# Altium integrated library Analog Devices Switches and Multiplexers Multiplexers (Muxes).IntLib: 481 symbols (part 20 of 23)
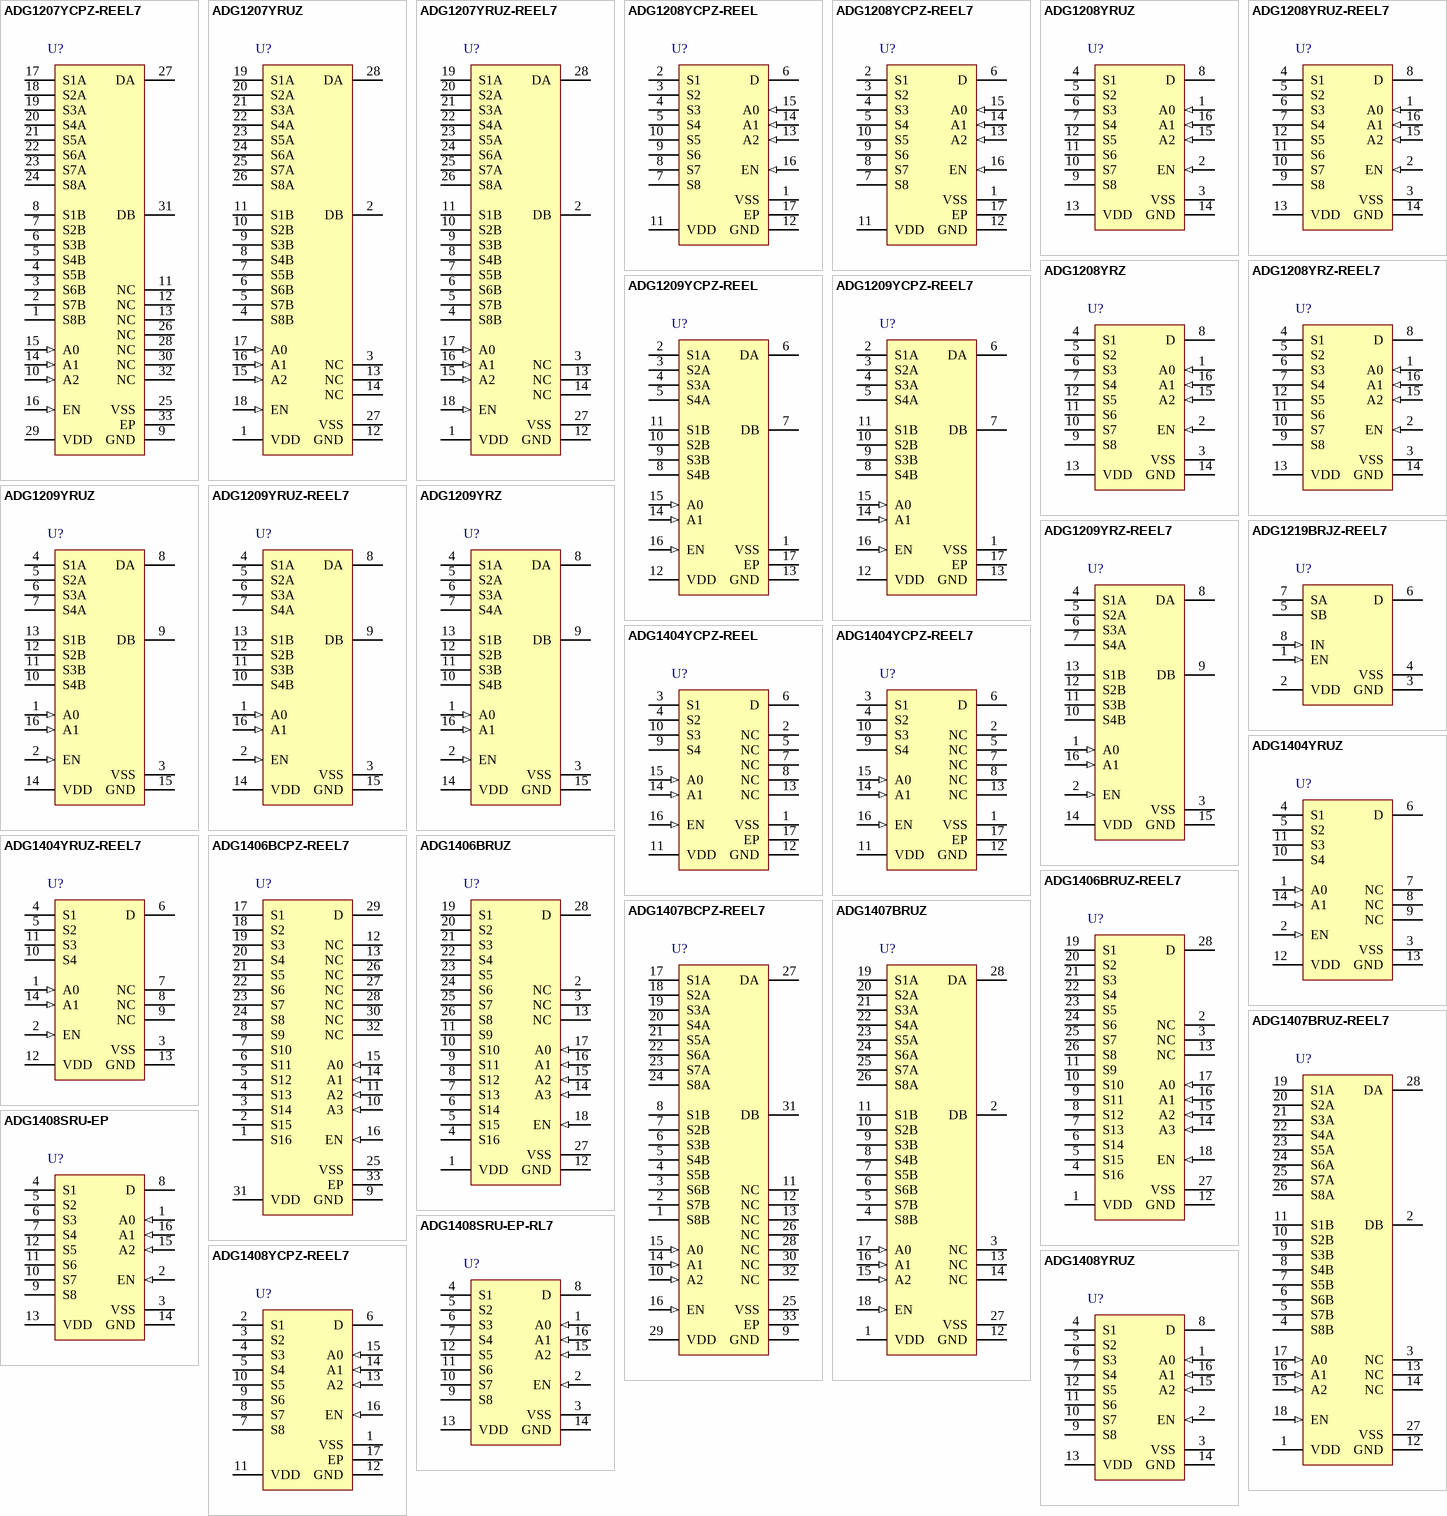
[diagram p36: symbols ADG1207YCPZ-REEL7 to ADG1408YRUZ]

## ADG1404YRUZ-REEL7
designator U?
1.5 Ohm On Resistance, +/-15 V / 12 V / +/-5 V, 4:1, iCMOS Multiplexer, 14-pin SOP (RU-14), Reel; Manufacturer: Analog Devices; PartNumber: ADG1404YRUZ-REEL7; Bandwidth (Hz): 55M, 35M, 40M; Max Analog Signal Range: Vss to Vdd; Ron (ohms): 1.5; t transition (s): 150n; DatasheetVersion: Rev. A; PackageVersion: Aug-02; PackageReference: RU-14; PackageDescription: 14-Pin Thin Shrink Small Outline Package, Body 5 x 4.4 mm, Pitch 0.65 mm; Supplier 1: Digi-Key; Supplier Part Number 1: ADG1404YRUZ-REEL7-ND; Supplier 2: Newark; Supplier Part Number 2: 06W1985; Supplier 3: Mouser; Supplier Part Number 3: 584-ADG1404YRUZ-R7; Packing: Reel; Mounting Technology: Surface Mount; Code_JEDEC: MO-153AB-1; ComponentLink1Description: Manufacturer URL; ComponentLink1URL: http://www.analog.com/en/index.html; ComponentLink2Description: Datasheet; ComponentLink2URL: http://www.analog.com/static/imported-files/data_sheets/ADG1404.pdf; ComponentLink3Description: Package Specification; ComponentLink3URL: http://www.analog.com/static/imported-files/packages/36057385283879153717235186773RU14.pdf
footprint ADI-RU-14_N (SOP, 14-Leads, Body 5x4.4mm, Pitch 0.65mm, IPC Medium Density)
footprint ADI-RU-14_L (SOP, 14-Leads, Body 5x4.4mm, Pitch 0.65mm, IPC High Density)
footprint ADI-RU-14_M (SOP, 14-Leads, Body 5x4.4mm, Pitch 0.65mm, IPC Low Density)
pins: 1 A0 (in) "Logic Control Input.", 2 EN (in) "Active High Digital Input. When this pin is low, the device is disabled and all switches are off. When this pin is high, the Ax logic inputs determine the on switches.", 3 VSS (power) "Most Negative Power Supply Potential.", 4 S1 "Source Terminal. Can be an input or an output.", 5 S2 "Source Terminal. Can be an input or an output.", 6 D "Drain Terminal. Can be an input or an output.", 7 NC "No Connection.", 8 NC "No Connection.", 9 NC "No Connection.", 10 S4 "Source Terminal. Can be an input or an output.", 11 S3 "Source Terminal. Can be an input or an output.", 12 VDD (power) "Most Positive Power Supply Potential.", 13 GND (power) "Ground (0 V) Reference.", 14 A1 (in) "Logic Control Input."

## ADG1406BCPZ-REEL7
designator U?
9.5 Ohm Ron, 16-Channel, +/-15 V / +12 V / +/-5 V iCMOS Multiplexer, 32-pin QFN (CP-32-2), Reel; Manufacturer: Analog Devices; PartNumber: ADG1406BCPZ-REEL7; Bandwidth (Hz): 60M, 35M, 40M; Max Analog Signal Range: Vss to Vdd; Ron (ohms): 9.5; t transition (s): 105n; DatasheetVersion: Rev. A; PackageVersion: Jan-05; PackageReference: CP-32-2; PackageDescription: 32-Pin Lead Frame Chip Scale Package, Body 5 x 5 mm, Pitch 0.5 mm; Supplier 1: Digi-Key; Supplier Part Number 1: ADG1406BCPZ-REEL7TR-ND; Supplier 2: Digi-Key; Supplier Part Number 2: ADG1406BCPZ-REEL7CT-ND; Supplier 3: Digi-Key; Supplier Part Number 3: ADG1406BCPZ-REEL7DKR-ND; Supplier 4: Newark; Supplier Part Number 4: 07P8866; Supplier 5: Mouser; Supplier Part Number 5: 584-ADG1406BCPZ-R7; Packing: Reel; Mounting Technology: Surface Mount; Code_JEDEC: MO-220-VHHD-2; ComponentLink1Description: Manufacturer URL; ComponentLink1URL: http://www.analog.com/en/index.html; ComponentLink2Description: Datasheet; ComponentLink2URL: http://www.analog.com/static/imported-files/data_sheets/ADG1406_1407.pdf; ComponentLink3Description: Package Specification; ComponentLink3URL: http://www.analog.com/static/imported-files/packages/414143737956480539664569CP_32_2.pdf
footprint ADI-CP-32-2_N (QFN, 32-Leads, Body 5x5mm, Pitch 0.5mm, Thermal Pad 3.1x3.1mm, IPC Medium Density)
footprint ADI-CP-32-2_L (QFN, 32-Leads, Body 5x5mm, Pitch 0.5mm, Thermal Pad 3.1x3.1mm, IPC High Density)
footprint ADI-CP-32-2_M (QFN, 32-Leads, Body 5x5mm, Pitch 0.5mm, Thermal Pad 3.1x3.1mm, IPC Low Density)
pins: 1 S16 "Source Terminal 16. This pin can be an input or an output.", 2 S15 "Source Terminal 15. This pin can be an input or an output.", 3 S14 "Source Terminal 14. This pin can be an input or an output.", 4 S13 "Source Terminal 13. This pin can be an input or an output.", 5 S12 "Source Terminal 12. This pin can be an input or an output.", 6 S11 "Source Terminal 11. This pin can be an input or an output.", 7 S10 "Source Terminal 10. This pin can be an input or an output.", 8 S9 "Source Terminal 9. This pin can be an input or an output.", 9 GND (power) "Ground (0 V) Reference.", 10 A3 (in) "Logic Control Input.", 11 A2 (in) "Logic Control Input.", 12 NC "Ground (0 V) Reference.", 13 NC "Source Terminal 13. This pin can be an input or an output.", 14 A1 (in) "Logic Control Input.", 15 A0 (in) "Logic Control Input.", 16 EN (in) "Active High Digital Input. When this pin is low, the device is disabled and all switches are turned off. When this pin is high, the Ax logic inputs determine which switch is turned on.", 17 S1 "Source Terminal 1. This pin can be an input or an output.", 18 S2 "Source Terminal 2. This pin can be an input or an output.", 19 S3 "Source Terminal 3. This pin can be an input or an output.", 20 S4 "Source Terminal 4. This pin can be an input or an output.", 21 S5 "Source Terminal 5. This pin can be an input or an output.", 22 S6 "Source Terminal 6. This pin can be an input or an output.", 23 S7 "Source Terminal 7. This pin can be an input or an output.", 24 S8 "Source Terminal 8. This pin can be an input or an output.", 25 VSS (power) "Most Negative Power Supply Potential. In single-supply applications, this pin can be connected to ground. The exposed pad is tied to the substrate, VSS.", 26 NC "No Connect.", 27 NC "No Connect.", 28 NC "No Connect.", 29 D "Drain Terminal. This pin can be an input or an output.", 30 NC "No Connect.", 31 VDD (power) "Most Positive Power Supply Potential.", 32 NC "No Connect.", 33 EP (power) "EXPOSED PAD TIED TO SUBSTRATE, VSS."

## ADG1406BRUZ
designator U?
9.5 Ohm Ron, 16-Channel, +/-15 V / +12 V / +/-5 V iCMOS Multiplexer, 28-pin SOP (RU-28), Tube; Manufacturer: Analog Devices; PartNumber: ADG1406BRUZ; Bandwidth (Hz): 60M, 35M, 40M; Max Analog Signal Range: Vss to Vdd; Ron (ohms): 9.5; t transition (s): 105n; DatasheetVersion: Rev. A; PackageVersion: Mar-05; PackageReference: RU-28; PackageDescription: 28-Pin Thin Shrink Small Outline Package, Body 9.7 x 4.4 mm, Pitch 0.65 mm; Supplier 1: Digi-Key; Supplier Part Number 1: ADG1406BRUZ-ND; Supplier 2: Farnell; Supplier Part Number 2: 2305790; Supplier 3: Newark; Supplier Part Number 3: 07P8867; Supplier 4: Mouser; Supplier Part Number 4: 584-ADG1406BRUZ; Packing: Tube; Mounting Technology: Surface Mount; Code_JEDEC: MO-153-AE; ComponentLink1Description: Manufacturer URL; ComponentLink1URL: http://www.analog.com/en/index.html; ComponentLink2Description: Datasheet; ComponentLink2URL: http://www.analog.com/static/imported-files/data_sheets/ADG1406_1407.pdf; ComponentLink3Description: Package Specification; ComponentLink3URL: http://www.analog.com/static/imported-files/packages/249854663RU_28.pdf
footprint ADI-RU-28_N (SOP, 28-Leads, Body 9.7x4.4mm, Pitch 0.65mm, IPC Medium Density)
footprint ADI-RU-28_L (SOP, 28-Leads, Body 9.7x4.4mm, Pitch 0.65mm, IPC High Density)
footprint ADI-RU-28_M (SOP, 28-Leads, Body 9.7x4.4mm, Pitch 0.65mm, IPC Low Density)
pins: 1 VDD (power) "Most Positive Power Supply Potential.", 2 NC "No Connect.", 3 NC "No Connect.", 4 S16 "Source Terminal 16. This pin can be an input or an output.", 5 S15 "Source Terminal 16. This pin can be an input or an output.", 6 S14 "Source Terminal 16. This pin can be an input or an output.", 7 S13 "Source Terminal 16. This pin can be an input or an output.", 8 S12 "Source Terminal 16. This pin can be an input or an output.", 9 S11 "Source Terminal 16. This pin can be an input or an output.", 10 S10 "Source Terminal 16. This pin can be an input or an output.", 11 S9 "Source Terminal 16. This pin can be an input or an output.", 12 GND (power) "Source Terminal 16. This pin can be an input or an output.", 13 NC "No Connect.", 14 A3 (in) "Logic Control Input.", 15 A2 (in) "Logic Control Input.", 16 A1 (in) "Logic Control Input.", 17 A0 (in) "Logic Control Input.", 18 EN (in) "Active High Digital Input. When this pin is low, the device is disabled and all switches are  turned off. When this pin is high, the Ax logic inputs determine which switch is turned on.", 19 S1 "Source Terminal 16. This pin can be an input or an output.", 20 S2 "Source Terminal 16. This pin can be an input or an output.", 21 S3 "Source Terminal 16. This pin can be an input or an output.", 22 S4 "Source Terminal 16. This pin can be an input or an output.", 23 S5 "Source Terminal 16. This pin can be an input or an output.", 24 S6 "Source Terminal 16. This pin can be an input or an output.", 25 S7 "Source Terminal 16. This pin can be an input or an output.", 26 S8 "Source Terminal 16. This pin can be an input or an output.", 27 VSS (power) "Most Negative Power Supply Potential. In single-supply applications, this pin can be connected to ground. The exposed pad is tied to the substrate, VSS.", 28 D "Drain Terminal. This pin can be an input or an output."

## ADG1406BRUZ-REEL7
designator U?
9.5 Ohm Ron, 16-Channel, +/-15 V / +12 V / +/-5 V iCMOS Multiplexer, 28-pin SOP (RU-28), Reel; Manufacturer: Analog Devices; PartNumber: ADG1406BRUZ-REEL7; Bandwidth (Hz): 60M, 35M, 40M; Max Analog Signal Range: Vss to Vdd; Ron (ohms): 9.5; t transition (s): 105n; DatasheetVersion: Rev. A; PackageVersion: Mar-05; PackageReference: RU-28; PackageDescription: 28-Pin Thin Shrink Small Outline Package, Body 9.7 x 4.4 mm, Pitch 0.65 mm; Supplier 1: Digi-Key; Supplier Part Number 1: ADG1406BRUZ-REEL7-ND; Supplier 2: Newark; Supplier Part Number 2: 07P8868; Supplier 3: Mouser; Supplier Part Number 3: 584-ADG1406BRUZ-R7; Packing: Reel; Mounting Technology: Surface Mount; Code_JEDEC: MO-153-AE; ComponentLink1Description: Manufacturer URL; ComponentLink1URL: http://www.analog.com/en/index.html; ComponentLink2Description: Datasheet; ComponentLink2URL: http://www.analog.com/static/imported-files/data_sheets/ADG1406_1407.pdf; ComponentLink3Description: Package Specification; ComponentLink3URL: http://www.analog.com/static/imported-files/packages/249854663RU_28.pdf
footprint ADI-RU-28_N (SOP, 28-Leads, Body 9.7x4.4mm, Pitch 0.65mm, IPC Medium Density)
footprint ADI-RU-28_L (SOP, 28-Leads, Body 9.7x4.4mm, Pitch 0.65mm, IPC High Density)
footprint ADI-RU-28_M (SOP, 28-Leads, Body 9.7x4.4mm, Pitch 0.65mm, IPC Low Density)
pins: 1 VDD (power) "Most Positive Power Supply Potential.", 2 NC "No Connect.", 3 NC "No Connect.", 4 S16 "Source Terminal 16. This pin can be an input or an output.", 5 S15 "Source Terminal 16. This pin can be an input or an output.", 6 S14 "Source Terminal 16. This pin can be an input or an output.", 7 S13 "Source Terminal 16. This pin can be an input or an output.", 8 S12 "Source Terminal 16. This pin can be an input or an output.", 9 S11 "Source Terminal 16. This pin can be an input or an output.", 10 S10 "Source Terminal 16. This pin can be an input or an output.", 11 S9 "Source Terminal 16. This pin can be an input or an output.", 12 GND (power) "Source Terminal 16. This pin can be an input or an output.", 13 NC "No Connect.", 14 A3 (in) "Logic Control Input.", 15 A2 (in) "Logic Control Input.", 16 A1 (in) "Logic Control Input.", 17 A0 (in) "Logic Control Input.", 18 EN (in) "Active High Digital Input. When this pin is low, the device is disabled and all switches are  turned off. When this pin is high, the Ax logic inputs determine which switch is turned on.", 19 S1 "Source Terminal 16. This pin can be an input or an output.", 20 S2 "Source Terminal 16. This pin can be an input or an output.", 21 S3 "Source Terminal 16. This pin can be an input or an output.", 22 S4 "Source Terminal 16. This pin can be an input or an output.", 23 S5 "Source Terminal 16. This pin can be an input or an output.", 24 S6 "Source Terminal 16. This pin can be an input or an output.", 25 S7 "Source Terminal 16. This pin can be an input or an output.", 26 S8 "Source Terminal 16. This pin can be an input or an output.", 27 VSS (power) "Most Negative Power Supply Potential. In single-supply applications, this pin can be connected to ground. The exposed pad is tied to the substrate, VSS.", 28 D "Drain Terminal. This pin can be an input or an output."

## ADG1407BCPZ-REEL7
designator U?
9.5 Ohm Ron, Differential 8-Channel, +/-15 V / +12 V / +/-5 V iCMOS Multiplexer, 32-pin QFN (CP-32-2), Reel; Manufacturer: Analog Devices; PartNumber: ADG1407BCPZ-REEL7; Bandwidth (Hz): 110M, 70M, 80M; Max Analog Signal Range: Vss to Vdd; Ron (ohms): 9.5; t transition (s): 105n; DatasheetVersion: Rev. A; PackageVersion: Jan-05; PackageReference: CP-32-2; PackageDescription: 32-Pin Lead Frame Chip Scale Package, Body 5 x 5 mm, Pitch 0.5 mm; Supplier 1: Digi-Key; Supplier Part Number 1: ADG1407BCPZ-REEL7TR-ND; Supplier 2: Digi-Key; Supplier Part Number 2: ADG1407BCPZ-REEL7CT-ND; Supplier 3: Digi-Key; Supplier Part Number 3: ADG1407BCPZ-REEL7DKR-ND; Supplier 4: Newark; Supplier Part Number 4: 07P8869; Supplier 5: Mouser; Supplier Part Number 5: 584-ADG1407BCPZ-R7; Packing: Reel; Mounting Technology: Surface Mount; Code_JEDEC: MO-220-VHHD-2; ComponentLink1Description: Manufacturer URL; ComponentLink1URL: http://www.analog.com/en/index.html; ComponentLink2Description: Datasheet; ComponentLink2URL: http://www.analog.com/static/imported-files/data_sheets/ADG1406_1407.pdf; ComponentLink3Description: Package Specification; ComponentLink3URL: http://www.analog.com/static/imported-files/packages/414143737956480539664569CP_32_2.pdf
footprint ADI-CP-32-2_N (QFN, 32-Leads, Body 5x5mm, Pitch 0.5mm, Thermal Pad 3.1x3.1mm, IPC Medium Density)
footprint ADI-CP-32-2_L (QFN, 32-Leads, Body 5x5mm, Pitch 0.5mm, Thermal Pad 3.1x3.1mm, IPC High Density)
footprint ADI-CP-32-2_M (QFN, 32-Leads, Body 5x5mm, Pitch 0.5mm, Thermal Pad 3.1x3.1mm, IPC Low Density)
pins: 1 S8B "Source Terminal 8B. This pin can be an input or an output.", 2 S7B "Source Terminal 7B. This pin can be an input or an output.", 3 S6B "Source Terminal 6B. This pin can be an input or an output.", 4 S5B "Source Terminal 5B. This pin can be an input or an output.", 5 S4B "Source Terminal 4B. This pin can be an input or an output.", 6 S3B "Source Terminal 3B. This pin can be an input or an output.", 7 S2B "Source Terminal 2B. This pin can be an input or an output.", 8 S1B "Source Terminal 1B. This pin can be an input or an output.", 9 GND (power) "Ground (0 V) Reference.", 10 A2 (in) "Logic Control Input.", 11 NC "No Connect.", 12 NC "No Connect.", 13 NC "No Connect.", 14 A1 (in) "Logic Control Input.", 15 A0 (in) "Logic Control Input.", 16 EN (in) "Active High Digital Input. When this pin is low, the device is disabled and all switches are turned off. When this pin is high, the Ax logic inputs determine which switch is turned on.", 17 S1A "Source Terminal 1A. This pin can be an input or an output.", 18 S2A "Source Terminal 2A. This pin can be an input or an output.", 19 S3A "Source Terminal 3A. This pin can be an input or an output.", 20 S4A "Source Terminal 4A. This pin can be an input or an output.", 21 S5A "Source Terminal 5A. This pin can be an input or an output.", 22 S6A "Source Terminal 6A. This pin can be an input or an output.", 23 S7A "Source Terminal 7A. This pin can be an input or an output.", 24 S8A "Source Terminal 8A. This pin can be an input or an output.", 25 VSS (power) "Most Negative Power Supply Potential. In single-supply applications, this pin can be connected to ground. The exposed pad is tied to the substrate, VSS.", 26 NC "No Connect.", 27 DA "Drain Terminal A. This pin can be an input or an output.", 28 NC "No Connect.", 29 VDD (power) "Most Positive Power Supply Potential.", 30 NC "No Connect.", 31 DB "Drain Terminal B. This pin can be an input or an output.", 32 NC "No Connect.", 33 EP (power) "EXPOSED PAD TIED TO SUBSTRATE, VSS."

## ADG1407BRUZ
designator U?
9.5 Ohm Ron, Differential 8-Channel, +/-15 V / +12 V / +/-5 V iCMOS Multiplexer, 28-pin SOP (RU-28), Tube; Manufacturer: Analog Devices; PartNumber: ADG1407BRUZ; Bandwidth (Hz): 110M, 70M, 80M; Max Analog Signal Range: Vss to Vdd; Ron (ohms): 9.5; t transition (s): 105n; DatasheetVersion: Rev. A; PackageVersion: Mar-05; PackageReference: RU-28; PackageDescription: 28-Pin Thin Shrink Small Outline Package, Body 9.7 x 4.4 mm, Pitch 0.65 mm; Supplier 1: Digi-Key; Supplier Part Number 1: ADG1407BRUZ-ND; Supplier 2: Farnell; Supplier Part Number 2: 2314064; Supplier 3: Newark; Supplier Part Number 3: 07P8870; Supplier 4: Mouser; Supplier Part Number 4: 584-ADG1407BRUZ; Packing: Tube; Mounting Technology: Surface Mount; Code_JEDEC: MO-153-AE; ComponentLink1Description: Manufacturer URL; ComponentLink1URL: http://www.analog.com/en/index.html; ComponentLink2Description: Datasheet; ComponentLink2URL: http://www.analog.com/static/imported-files/data_sheets/ADG1406_1407.pdf; ComponentLink3Description: Package Specification; ComponentLink3URL: http://www.analog.com/static/imported-files/packages/249854663RU_28.pdf
footprint ADI-RU-28_N (SOP, 28-Leads, Body 9.7x4.4mm, Pitch 0.65mm, IPC Medium Density)
footprint ADI-RU-28_L (SOP, 28-Leads, Body 9.7x4.4mm, Pitch 0.65mm, IPC High Density)
footprint ADI-RU-28_M (SOP, 28-Leads, Body 9.7x4.4mm, Pitch 0.65mm, IPC Low Density)
pins: 1 VDD (power) "Most Positive Power Supply Potential.", 2 DB "Drain Terminal B. This pin can be an input or an output.", 3 NC "No Connect.", 4 S8B "Source Terminal 8B. This pin can be an input or an output.", 5 S7B "Source Terminal 7B. This pin can be an input or an output.", 6 S6B "Source Terminal 6B. This pin can be an input or an output.", 7 S5B "Source Terminal 5B. This pin can be an input or an output.", 8 S4B "Source Terminal 4B. This pin can be an input or an output.", 9 S3B "Source Terminal 3B. This pin can be an input or an output.", 10 S2B "Source Terminal 2B. This pin can be an input or an output.", 11 S1B "Source Terminal 1B. This pin can be an input or an output.", 12 GND (power) "Ground (0 V) Reference.", 13 NC "No Connect.", 14 NC "No Connect.", 15 A2 (in) "Logic Control Input.", 16 A1 (in) "Logic Control Input.", 17 A0 (in) "Logic Control Input.", 18 EN (in) "Active High Digital Input. When this pin is low, the device is disabled and all switches are turned off. When this pin is high, the Ax logic inputs determine which switch is turned on.", 19 S1A "Source Terminal 1A. This pin can be an input or an output.", 20 S2A "Source Terminal 2A. This pin can be an input or an output.", 21 S3A "Source Terminal 3A. This pin can be an input or an output.", 22 S4A "Source Terminal 4A. This pin can be an input or an output.", 23 S5A "Source Terminal 5A. This pin can be an input or an output.", 24 S6A "Source Terminal 6A. This pin can be an input or an output.", 25 S7A "Source Terminal 7A. This pin can be an input or an output.", 26 S8A "Source Terminal 8A. This pin can be an input or an output.", 27 VSS (power) "Most Negative Power Supply Potential. In single-supply applications, this pin can be connected to ground. The exposed pad is tied to the substrate, VSS.", 28 DA "Drain Terminal A. This pin can be an input or an output."

## ADG1407BRUZ-REEL7
designator U?
9.5 Ohm Ron, Differential 8-Channel, +/-15 V / +12 V / +/-5 V iCMOS Multiplexer, 28-pin SOP (RU-28), Reel; Manufacturer: Analog Devices; PartNumber: ADG1407BRUZ-REEL7; Bandwidth (Hz): 110M, 70M, 80M; Max Analog Signal Range: Vss to Vdd; Ron (ohms): 9.5; t transition (s): 105n; DatasheetVersion: Rev. A; PackageVersion: Mar-05; PackageReference: RU-28; PackageDescription: 28-Pin Thin Shrink Small Outline Package, Body 9.7 x 4.4 mm, Pitch 0.65 mm; Supplier 1: Digi-Key; Supplier Part Number 1: ADG1407BRUZ-REEL7-ND; Supplier 2: Newark; Supplier Part Number 2: 07P8871; Supplier 3: Mouser; Supplier Part Number 3: 584-ADG1407BRUZ-R7; Packing: Reel; Mounting Technology: Surface Mount; Code_JEDEC: MO-153-AE; ComponentLink1Description: Manufacturer URL; ComponentLink1URL: http://www.analog.com/en/index.html; ComponentLink2Description: Datasheet; ComponentLink2URL: http://www.analog.com/static/imported-files/data_sheets/ADG1406_1407.pdf; ComponentLink3Description: Package Specification; ComponentLink3URL: http://www.analog.com/static/imported-files/packages/249854663RU_28.pdf
footprint ADI-RU-28_N (SOP, 28-Leads, Body 9.7x4.4mm, Pitch 0.65mm, IPC Medium Density)
footprint ADI-RU-28_L (SOP, 28-Leads, Body 9.7x4.4mm, Pitch 0.65mm, IPC High Density)
footprint ADI-RU-28_M (SOP, 28-Leads, Body 9.7x4.4mm, Pitch 0.65mm, IPC Low Density)
pins: 1 VDD (power) "Most Positive Power Supply Potential.", 2 DB "Drain Terminal B. This pin can be an input or an output.", 3 NC "No Connect.", 4 S8B "Source Terminal 8B. This pin can be an input or an output.", 5 S7B "Source Terminal 7B. This pin can be an input or an output.", 6 S6B "Source Terminal 6B. This pin can be an input or an output.", 7 S5B "Source Terminal 5B. This pin can be an input or an output.", 8 S4B "Source Terminal 4B. This pin can be an input or an output.", 9 S3B "Source Terminal 3B. This pin can be an input or an output.", 10 S2B "Source Terminal 2B. This pin can be an input or an output.", 11 S1B "Source Terminal 1B. This pin can be an input or an output.", 12 GND (power) "Ground (0 V) Reference.", 13 NC "No Connect.", 14 NC "No Connect.", 15 A2 (in) "Logic Control Input.", 16 A1 (in) "Logic Control Input.", 17 A0 (in) "Logic Control Input.", 18 EN (in) "Active High Digital Input. When this pin is low, the device is disabled and all switches are turned off. When this pin is high, the Ax logic inputs determine which switch is turned on.", 19 S1A "Source Terminal 1A. This pin can be an input or an output.", 20 S2A "Source Terminal 2A. This pin can be an input or an output.", 21 S3A "Source Terminal 3A. This pin can be an input or an output.", 22 S4A "Source Terminal 4A. This pin can be an input or an output.", 23 S5A "Source Terminal 5A. This pin can be an input or an output.", 24 S6A "Source Terminal 6A. This pin can be an input or an output.", 25 S7A "Source Terminal 7A. This pin can be an input or an output.", 26 S8A "Source Terminal 8A. This pin can be an input or an output.", 27 VSS (power) "Most Negative Power Supply Potential. In single-supply applications, this pin can be connected to ground. The exposed pad is tied to the substrate, VSS.", 28 DA "Drain Terminal A. This pin can be an input or an output."

## ADG1408SRU-EP
designator U?
4 Ohm Ron, 8-Channel +/-15 V / +12 V / +/-5 V iCMOS Multiplexer, 16-pin SOP (RU-16), Tube; Manufacturer: Analog Devices; PartNumber: ADG1408SRU-EP; Bandwidth (Hz): 60M, 36M, 40M; Max Analog Signal Range: Vss to Vdd; Ron (ohms): 4; t transition (s): 140n; DatasheetVersion: Rev. B; PackageVersion: Nov-02; PackageReference: RU-16; PackageDescription: 16-Pin Thin Shrink Small Outline Package, Body 5 x 4.4 mm, Pitch 0.65 mm; Supplier 1: Digi-Key; Supplier Part Number 1: ADG1408SRU-EP-ND; Supplier 2: Mouser; Supplier Part Number 2: 584-ADG1408SRU-EP; Packing: Tube; Mounting Technology: Surface Mount; Code_JEDEC: MO-153AB; ComponentLink1Description: Manufacturer URL; ComponentLink1URL: http://www.analog.com/en/index.html; ComponentLink2Description: Datasheet; ComponentLink2URL: http://www.analog.com/static/imported-files/data_sheets/ADG1408_1409.pdf; ComponentLink3Description: Package Specification; ComponentLink3URL: http:/www.analog.com/static/imported-files/packages/36244347913743854010197452789RU16.pdf
footprint ADI-RU-16_N (SOP, 16-Leads, Body 5x4.4mm, Pitch 0.65mm, IPC Medium Density)
footprint ADI-RU-16_L (SOP, 16-Leads, Body 5x4.4mm, Pitch 0.65mm, IPC High Density)
footprint ADI-RU-16_M (SOP, 16-Leads, Body 5x4.4mm, Pitch 0.65mm, IPC Low Density)
pins: 1 A0 (in) "Logic Control Input.", 2 EN (in) "Active High Digital Input. When low, the device is disabled and all switches are off. When high, Ax logic inputs determine on switches.", 3 VSS (power) "Most Negative Power Supply Potential. In single supply applications, it can be connected to ground.", 4 S1 "Source Terminal 1. Can be an input or an output.", 5 S2 "Source Terminal 2. Can be an input or an output.", 6 S3 "Source Terminal 3. Can be an input or an output.", 7 S4 "Source Terminal 4. Can be an input or an output.", 8 D "Drain Terminal. Can be an input or an output.", 9 S8 "Source Terminal 8. Can be an input or an output.", 10 S7 "Source Terminal 7. Can be an input or an output.", 11 S6 "Source Terminal 6. Can be an input or an output.", 12 S5 "Source Terminal 5. Can be an input or an output.", 13 VDD (power) "Most Positive Power Supply Potential.", 14 GND (power) "Ground (0 V) Reference.", 15 A2 (in) "Logic Control Input.", 16 A1 (in) "Logic Control Input."

## ADG1408SRU-EP-RL7
designator U?
4 Ohm Ron, 8-Channel +/-15 V / +12 V / +/-5 V iCMOS Multiplexer, 16-pin SOP (RU-16), Reel; Manufacturer: Analog Devices; PartNumber: ADG1408SRU-EP-RL7; Bandwidth (Hz): 60M, 36M, 40M; Max Analog Signal Range: Vss to Vdd; Ron (ohms): 4; t transition (s): 140n; DatasheetVersion: Rev. B; PackageVersion: Nov-02; PackageReference: RU-16; PackageDescription: 16-Pin Thin Shrink Small Outline Package, Body 5 x 4.4 mm, Pitch 0.65 mm; Supplier 1: Digi-Key; Supplier Part Number 1: ADG1408SRU-EP-RL7TR-ND; Supplier 2: Digi-Key; Supplier Part Number 2: ADG1408SRU-EP-RL7CT-ND; Supplier 3: Digi-Key; Supplier Part Number 3: ADG1408SRU-EP-RL7DKR-ND; Supplier 4: Mouser; Supplier Part Number 4: 584-ADG1408SRU-EP-R7; Packing: Reel; Mounting Technology: Surface Mount; Code_JEDEC: MO-153AB; ComponentLink1Description: Manufacturer URL; ComponentLink1URL: http://www.analog.com/en/index.html; ComponentLink2Description: Datasheet; ComponentLink2URL: http://www.analog.com/static/imported-files/data_sheets/ADG1408_1409.pdf; ComponentLink3Description: Package Specification; ComponentLink3URL: http:/www.analog.com/static/imported-files/packages/36244347913743854010197452789RU16.pdf
footprint ADI-RU-16_N (SOP, 16-Leads, Body 5x4.4mm, Pitch 0.65mm, IPC Medium Density)
footprint ADI-RU-16_L (SOP, 16-Leads, Body 5x4.4mm, Pitch 0.65mm, IPC High Density)
footprint ADI-RU-16_M (SOP, 16-Leads, Body 5x4.4mm, Pitch 0.65mm, IPC Low Density)
pins: 1 A0 (in) "Logic Control Input.", 2 EN (in) "Active High Digital Input. When low, the device is disabled and all switches are off. When high, Ax logic inputs determine on switches.", 3 VSS (power) "Most Negative Power Supply Potential. In single supply applications, it can be connected to ground.", 4 S1 "Source Terminal 1. Can be an input or an output.", 5 S2 "Source Terminal 2. Can be an input or an output.", 6 S3 "Source Terminal 3. Can be an input or an output.", 7 S4 "Source Terminal 4. Can be an input or an output.", 8 D "Drain Terminal. Can be an input or an output.", 9 S8 "Source Terminal 8. Can be an input or an output.", 10 S7 "Source Terminal 7. Can be an input or an output.", 11 S6 "Source Terminal 6. Can be an input or an output.", 12 S5 "Source Terminal 5. Can be an input or an output.", 13 VDD (power) "Most Positive Power Supply Potential.", 14 GND (power) "Ground (0 V) Reference.", 15 A2 (in) "Logic Control Input.", 16 A1 (in) "Logic Control Input."

## ADG1408YCPZ-REEL7
designator U?
4 Ohm Ron, 8-Channel +/-15 V / +12 V / +/-5 V iCMOS Multiplexer, 16-pin QFN (CP-16-13), Reel; Manufacturer: Analog Devices; PartNumber: ADG1408YCPZ-REEL7; Bandwidth (Hz): 60M, 36M, 40M; Max Analog Signal Range: Vss to Vdd; Ron (ohms): 4; t transition (s): 140n; DatasheetVersion: Rev. B; PackageVersion: 031006-A, 06/2006; PackageReference: CP-16-13; PackageDescription: 16-Pin Lead Frame Chip Scale Package, Body 4 x 4 mm, Pitch 0.65 mm; Supplier 1: Digi-Key; Supplier Part Number 1: ADG1408YCPZ-REEL7TR-ND; Supplier 2: Digi-Key; Supplier Part Number 2: ADG1408YCPZ-REEL7CT-ND; Supplier 3: Digi-Key; Supplier Part Number 3: ADG1408YCPZ-REEL7DKR-ND; Supplier 4: Farnell; Supplier Part Number 4: 2312830; Supplier 5: Newark; Supplier Part Number 5: 67W2630; Supplier 6: Newark; Supplier Part Number 6: 28M3585; Supplier 7: Mouser; Supplier Part Number 7: 584-ADG1408YCPZ-R7; Packing: Reel; Mounting Technology: Surface Mount; Code_JEDEC: MO-220-VGGC.; ComponentLink1Description: Manufacturer URL; ComponentLink1URL: http://www.analog.com/en/index.html; ComponentLink2Description: Datasheet; ComponentLink2URL: http://www.analog.com/static/imported-files/data_sheets/ADG1408_1409.pdf; ComponentLink3Description: Package Specification; ComponentLink3URL: http://www.analog.com/static/imported-files/packages/PKG_PDF/LFCSP(CP)/CP-16/CP_16_13.pdf
footprint ADI-CP-16-13_N (QFN, 16-Leads, Body 4x4mm, Pitch 0.65mm, Thermal Pad 2.5x2.5mm, IPC Medium Density)
footprint ADI-CP-16-13_L (QFN, 16-Leads, Body 4x4mm, Pitch 0.65mm, Thermal Pad 2.5x2.5mm, IPC High Density)
footprint ADI-CP-16-13_M (QFN, 16-Leads, Body 4x4mm, Pitch 0.65mm, Thermal Pad 2.5x2.5mm, IPC Low Density)
pins: 1 VSS (power) "Most Negative Power Supply Potential. In single supply applications, it can be connected to ground.", 2 S1 "Source Terminal 1. Can be an input or an output.", 3 S2 "Source Terminal 2. Can be an input or an output.", 4 S3 "Source Terminal 3. Can be an input or an output.", 5 S4 "Source Terminal 4. Can be an input or an output.", 6 D "Drain Terminal. Can be an input or an output.", 7 S8 "Source Terminal 8. Can be an input or an output.", 8 S7 "Source Terminal 7. Can be an input or an output.", 9 S6 "Source Terminal 6. Can be an input or an output.", 10 S5 "Source Terminal . Can be an input or an output.", 11 VDD (power) "Most Positive Power Supply Potential.", 12 GND (power) "Ground (0 V) Reference.", 13 A2 (in) "Logic Control Input.", 14 A1 (in) "Logic Control Input.", 15 A0 (in) "Logic Control Input.", 16 EN (in) "Active High Digital Input. When low, the device is disabled and all switches are off. When high, Ax logic inputs determine on switches.", 17 EP (power) "The exposed pad is connected internally. For increased reliability of the solder joints and maximum thermal capability, it is recommended that the pad be soldered to the substrate, VSS."

## ADG1408YRUZ
designator U?
4 Ohm Ron, 8-Channel +/-15 V / +12 V / +/-5 V iCMOS Multiplexer, 16-pin SOP (RU-16), Tube; Manufacturer: Analog Devices; PartNumber: ADG1408YRUZ; Bandwidth (Hz): 60M, 36M, 40M; Max Analog Signal Range: Vss to Vdd; Ron (ohms): 4; t transition (s): 140n; DatasheetVersion: Rev. B; PackageVersion: Nov-02; PackageReference: RU-16; PackageDescription: 16-Pin Thin Shrink Small Outline Package, Body 5 x 4.4 mm, Pitch 0.65 mm; Supplier 1: Digi-Key; Supplier Part Number 1: ADG1408YRUZ-ND; Supplier 2: Farnell; Supplier Part Number 2: 1438940; Supplier 3: Newark; Supplier Part Number 3: 28M3586; Supplier 4: Mouser; Supplier Part Number 4: 584-ADG1408YRUZ; Packing: Tube; Mounting Technology: Surface Mount; Code_JEDEC: MO-153AB; ComponentLink1Description: Manufacturer URL; ComponentLink1URL: http://www.analog.com/en/index.html; ComponentLink2Description: Datasheet; ComponentLink2URL: http://www.analog.com/static/imported-files/data_sheets/ADG1408_1409.pdf; ComponentLink3Description: Package Specification; ComponentLink3URL: http:/www.analog.com/static/imported-files/packages/36244347913743854010197452789RU16.pdf
footprint ADI-RU-16_N (SOP, 16-Leads, Body 5x4.4mm, Pitch 0.65mm, IPC Medium Density)
footprint ADI-RU-16_L (SOP, 16-Leads, Body 5x4.4mm, Pitch 0.65mm, IPC High Density)
footprint ADI-RU-16_M (SOP, 16-Leads, Body 5x4.4mm, Pitch 0.65mm, IPC Low Density)
pins: 1 A0 (in) "Logic Control Input.", 2 EN (in) "Active High Digital Input. When low, the device is disabled and all switches are off. When high, Ax logic inputs determine on switches.", 3 VSS (power) "Most Negative Power Supply Potential. In single supply applications, it can be connected to ground.", 4 S1 "Source Terminal 1. Can be an input or an output.", 5 S2 "Source Terminal 2. Can be an input or an output.", 6 S3 "Source Terminal 3. Can be an input or an output.", 7 S4 "Source Terminal 4. Can be an input or an output.", 8 D "Drain Terminal. Can be an input or an output.", 9 S8 "Source Terminal 8. Can be an input or an output.", 10 S7 "Source Terminal 7. Can be an input or an output.", 11 S6 "Source Terminal 6. Can be an input or an output.", 12 S5 "Source Terminal 5. Can be an input or an output.", 13 VDD (power) "Most Positive Power Supply Potential.", 14 GND (power) "Ground (0 V) Reference.", 15 A2 (in) "Logic Control Input.", 16 A1 (in) "Logic Control Input."

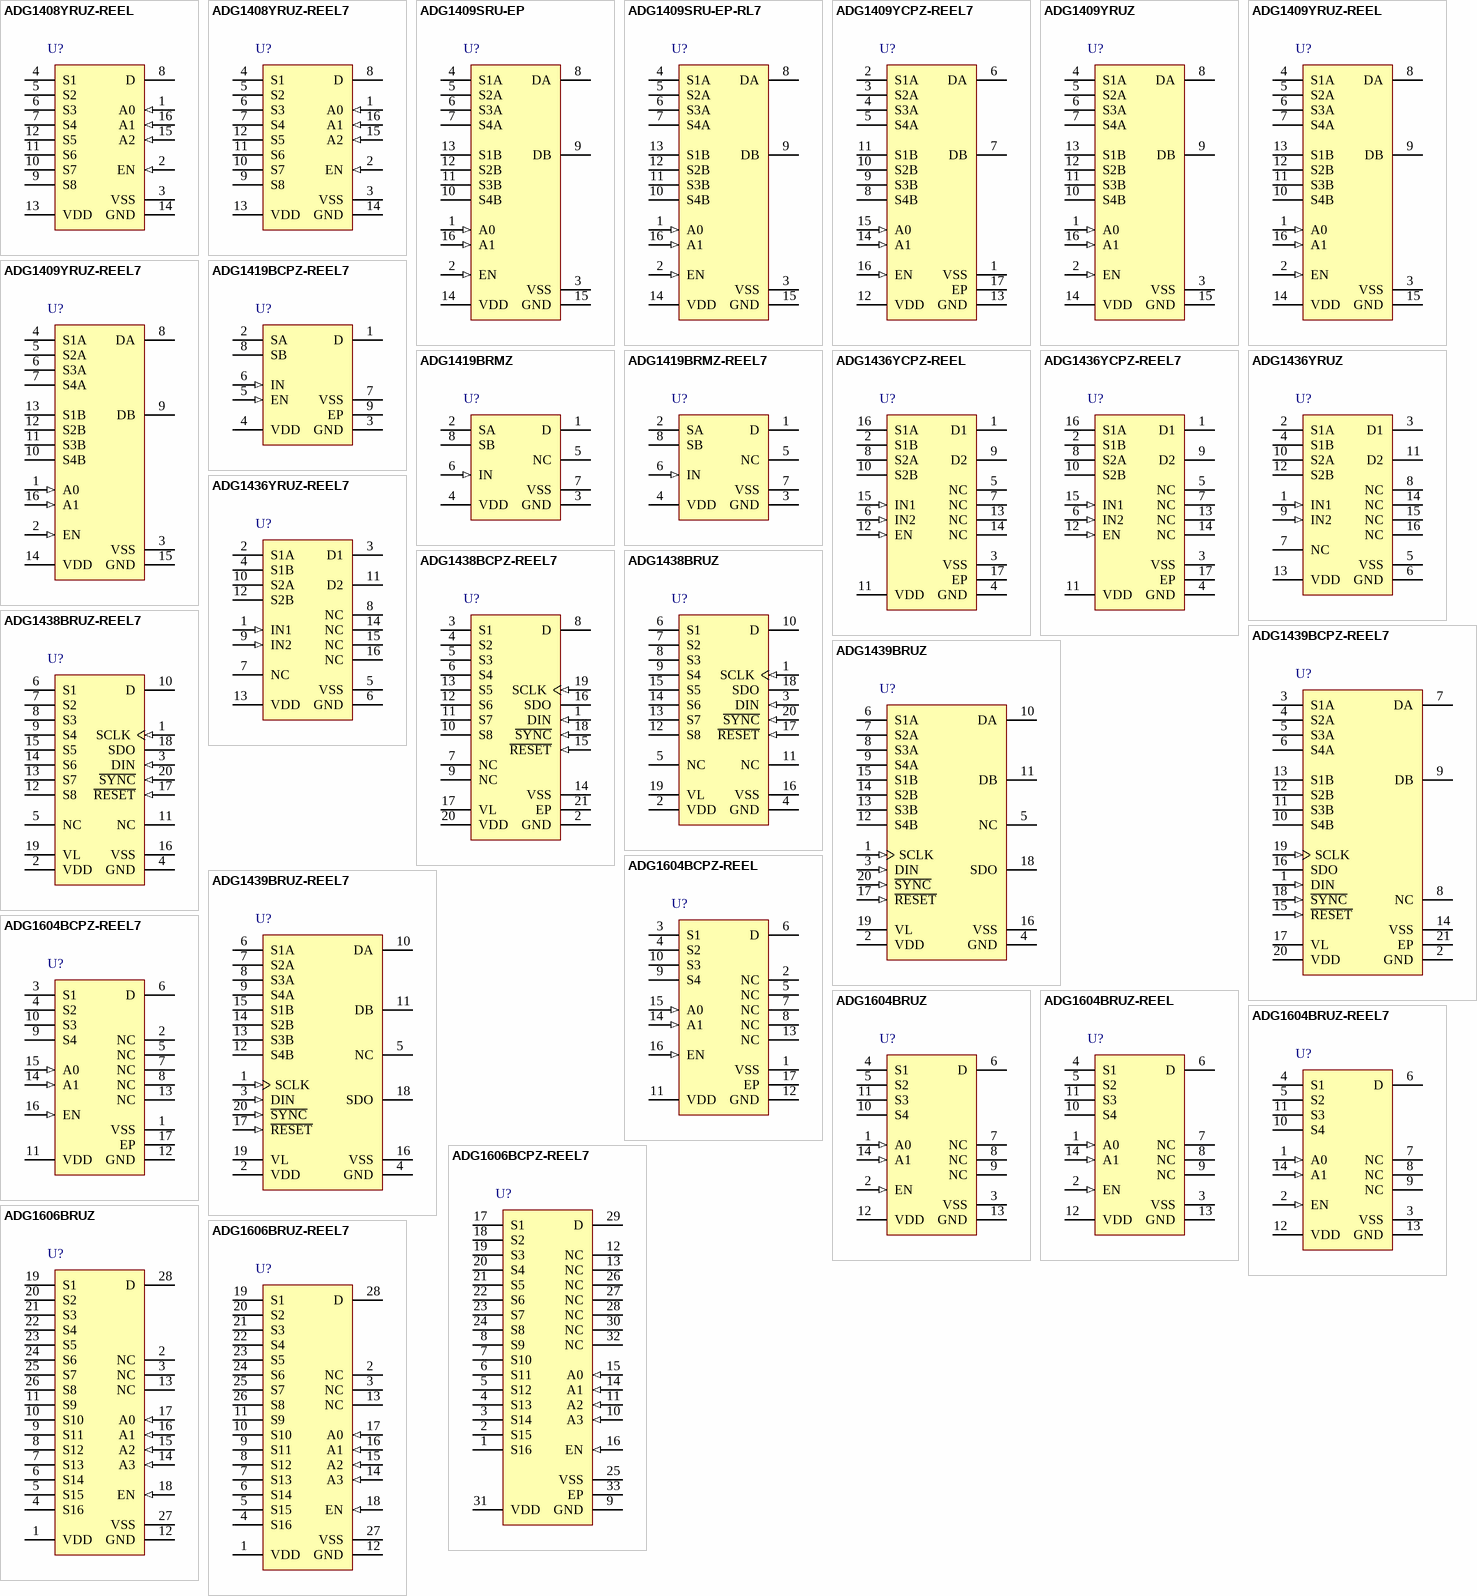
[diagram p15: symbols ADG1408YRUZ-REEL to ADG1606BRUZ-REEL7]

## ADG1408YRUZ-REEL
designator U?
4 Ohm Ron, 8-Channel +/-15 V / +12 V / +/-5 V iCMOS Multiplexer, 16-pin SOP (RU-16), Reel; Manufacturer: Analog Devices; PartNumber: ADG1408YRUZ-REEL; Bandwidth (Hz): 60M, 36M, 40M; Max Analog Signal Range: Vss to Vdd; Ron (ohms): 4; t transition (s): 140n; DatasheetVersion: Rev. B; PackageVersion: Nov-02; PackageReference: RU-16; PackageDescription: 16-Pin Thin Shrink Small Outline Package, Body 5 x 4.4 mm, Pitch 0.65 mm; Supplier 1: Digi-Key; Supplier Part Number 1: ADG1408YRUZ-REEL-ND; Supplier 2: Newark; Supplier Part Number 2: 28M3587; Supplier 3: Mouser; Supplier Part Number 3: 584-ADG1408YRUZ-R; Packing: Reel; Mounting Technology: Surface Mount; Code_JEDEC: MO-153AB; ComponentLink1Description: Manufacturer URL; ComponentLink1URL: http://www.analog.com/en/index.html; ComponentLink2Description: Datasheet; ComponentLink2URL: http://www.analog.com/static/imported-files/data_sheets/ADG1408_1409.pdf; ComponentLink3Description: Package Specification; ComponentLink3URL: http:/www.analog.com/static/imported-files/packages/36244347913743854010197452789RU16.pdf
footprint ADI-RU-16_N (SOP, 16-Leads, Body 5x4.4mm, Pitch 0.65mm, IPC Medium Density)
footprint ADI-RU-16_L (SOP, 16-Leads, Body 5x4.4mm, Pitch 0.65mm, IPC High Density)
footprint ADI-RU-16_M (SOP, 16-Leads, Body 5x4.4mm, Pitch 0.65mm, IPC Low Density)
pins: 1 A0 (in) "Logic Control Input.", 2 EN (in) "Active High Digital Input. When low, the device is disabled and all switches are off. When high, Ax logic inputs determine on switches.", 3 VSS (power) "Most Negative Power Supply Potential. In single supply applications, it can be connected to ground.", 4 S1 "Source Terminal 1. Can be an input or an output.", 5 S2 "Source Terminal 2. Can be an input or an output.", 6 S3 "Source Terminal 3. Can be an input or an output.", 7 S4 "Source Terminal 4. Can be an input or an output.", 8 D "Drain Terminal. Can be an input or an output.", 9 S8 "Source Terminal 8. Can be an input or an output.", 10 S7 "Source Terminal 7. Can be an input or an output.", 11 S6 "Source Terminal 6. Can be an input or an output.", 12 S5 "Source Terminal 5. Can be an input or an output.", 13 VDD (power) "Most Positive Power Supply Potential.", 14 GND (power) "Ground (0 V) Reference.", 15 A2 (in) "Logic Control Input.", 16 A1 (in) "Logic Control Input."

## ADG1408YRUZ-REEL7
designator U?
4 Ohm Ron, 8-Channel +/-15 V / +12 V / +/-5 V iCMOS Multiplexer, 16-pin SOP (RU-16), Reel; Manufacturer: Analog Devices; PartNumber: ADG1408YRUZ-REEL7; Bandwidth (Hz): 60M, 36M, 40M; Max Analog Signal Range: Vss to Vdd; Ron (ohms): 4; t transition (s): 140n; DatasheetVersion: Rev. B; PackageVersion: Nov-02; PackageReference: RU-16; PackageDescription: 16-Pin Thin Shrink Small Outline Package, Body 5 x 4.4 mm, Pitch 0.65 mm; Supplier 1: Digi-Key; Supplier Part Number 1: ADG1408YRUZ-REEL7TR-ND; Supplier 2: Digi-Key; Supplier Part Number 2: ADG1408YRUZ-REEL7CT-ND; Supplier 3: Digi-Key; Supplier Part Number 3: ADG1408YRUZ-REEL7DKR-ND; Supplier 4: Newark; Supplier Part Number 4: 28M3588; Supplier 5: Mouser; Supplier Part Number 5: 584-ADG1408YRUZ-R7; Packing: Reel; Mounting Technology: Surface Mount; Code_JEDEC: MO-153AB; ComponentLink1Description: Manufacturer URL; ComponentLink1URL: http://www.analog.com/en/index.html; ComponentLink2Description: Datasheet; ComponentLink2URL: http://www.analog.com/static/imported-files/data_sheets/ADG1408_1409.pdf; ComponentLink3Description: Package Specification; ComponentLink3URL: http:/www.analog.com/static/imported-files/packages/36244347913743854010197452789RU16.pdf
footprint ADI-RU-16_N (SOP, 16-Leads, Body 5x4.4mm, Pitch 0.65mm, IPC Medium Density)
footprint ADI-RU-16_L (SOP, 16-Leads, Body 5x4.4mm, Pitch 0.65mm, IPC High Density)
footprint ADI-RU-16_M (SOP, 16-Leads, Body 5x4.4mm, Pitch 0.65mm, IPC Low Density)
pins: 1 A0 (in) "Logic Control Input.", 2 EN (in) "Active High Digital Input. When low, the device is disabled and all switches are off. When high, Ax logic inputs determine on switches.", 3 VSS (power) "Most Negative Power Supply Potential. In single supply applications, it can be connected to ground.", 4 S1 "Source Terminal 1. Can be an input or an output.", 5 S2 "Source Terminal 2. Can be an input or an output.", 6 S3 "Source Terminal 3. Can be an input or an output.", 7 S4 "Source Terminal 4. Can be an input or an output.", 8 D "Drain Terminal. Can be an input or an output.", 9 S8 "Source Terminal 8. Can be an input or an output.", 10 S7 "Source Terminal 7. Can be an input or an output.", 11 S6 "Source Terminal 6. Can be an input or an output.", 12 S5 "Source Terminal 5. Can be an input or an output.", 13 VDD (power) "Most Positive Power Supply Potential.", 14 GND (power) "Ground (0 V) Reference.", 15 A2 (in) "Logic Control Input.", 16 A1 (in) "Logic Control Input."

## ADG1409SRU-EP
designator U?
4-Channel +/-15 V / +12 V / +/-5 V iCMOS Multiplexer, 4 Ohm Ron, 16-pin SOP (RU-16), Tube; Manufacturer: Analog Devices; PartNumber: ADG1409SRU-EP; Bandwidth (Hz): 115M, 72 M, 80M; Max Analog Signal Range: Vss to Vdd; Ron (ohms): 4; t transition (s): 140n; DatasheetVersion: Rev. B; PackageVersion: Nov-02; PackageReference: RU-16; PackageDescription: 16-Pin Thin Shrink Small Outline Package, Body 5 x 4.4 mm, Pitch 0.65 mm; Supplier 1: Digi-Key; Supplier Part Number 1: ADG1409SRU-EP-ND; Supplier 2: Mouser; Supplier Part Number 2: 584-ADG1409SRU-EP; Packing: Tube; Mounting Technology: Surface Mount; Code_JEDEC: MO-153AB; ComponentLink1Description: Manufacturer URL; ComponentLink1URL: http://www.analog.com/en/index.html; ComponentLink2Description: Datasheet; ComponentLink2URL: http://www.analog.com/static/imported-files/data_sheets/ADG1408_1409.pdf; ComponentLink3Description: Package Specification; ComponentLink3URL: http:/www.analog.com/static/imported-files/packages/36244347913743854010197452789RU16.pdf
footprint ADI-RU-16_N (SOP, 16-Leads, Body 5x4.4mm, Pitch 0.65mm, IPC Medium Density)
footprint ADI-RU-16_L (SOP, 16-Leads, Body 5x4.4mm, Pitch 0.65mm, IPC High Density)
footprint ADI-RU-16_M (SOP, 16-Leads, Body 5x4.4mm, Pitch 0.65mm, IPC Low Density)
pins: 1 A0 (in) "Logic Control Input.", 2 EN (in) "Active High Digital Input. When low, the device is disabled and all switches are off. When high, Ax logic inputs determine on switches.", 3 VSS (power) "Most Negative Power Supply Potential. In single supply applications, it can be connected to ground.", 4 S1A "Source Terminal 1A. Can be an input or an output.", 5 S2A "Source Terminal 2A. Can be an input or an output.", 6 S3A "Source Terminal 3A. Can be an input or an output.", 7 S4A "Source Terminal 4A. Can be an input or an output.", 8 DA "Drain Terminal A. Can be an input or an output.", 9 DB "Drain Terminal B. Can be an input or an output.", 10 S4B "Source Terminal 4B. Can be an input or an output.", 11 S3B "Source Terminal 3B. Can be an input or an output.", 12 S2B "Source Terminal 2B. Can be an input or an output", 13 S1B "Source Terminal 1B. Can be an input or an output.", 14 VDD (power) "Most Positive Power Supply Potential.", 15 GND (power) "Ground (0 V) Reference.", 16 A1 (in) "Logic Control Input."

## ADG1409SRU-EP-RL7
designator U?
4 Ohm Ron, 4-Channel +/-15 V / +12 V / +/-5 V iCMOS Multiplexer, 16-pin SOP (RU-16), Reel; Manufacturer: Analog Devices; PartNumber: ADG1409SRU-EP-RL7; Bandwidth (Hz): 115M, 72 M, 80M; Max Analog Signal Range: Vss to Vdd; Ron (ohms): 4; t transition (s): 140n; DatasheetVersion: Rev. B; PackageVersion: Nov-02; PackageReference: RU-16; PackageDescription: 16-Pin Thin Shrink Small Outline Package, Body 5 x 4.4 mm, Pitch 0.65 mm; Supplier 1: Digi-Key; Supplier Part Number 1: ADG1409SRU-EP-RL7TR-ND; Supplier 2: Digi-Key; Supplier Part Number 2: ADG1409SRU-EP-RL7CT-ND; Supplier 3: Digi-Key; Supplier Part Number 3: ADG1409SRU-EP-RL7DKR-ND; Supplier 4: Mouser; Supplier Part Number 4: 584-ADG1409SRU-EP-R7; Packing: Reel; Mounting Technology: Surface Mount; Code_JEDEC: MO-153AB; ComponentLink1Description: Manufacturer URL; ComponentLink1URL: http://www.analog.com/en/index.html; ComponentLink2Description: Datasheet; ComponentLink2URL: http://www.analog.com/static/imported-files/data_sheets/ADG1408_1409.pdf; ComponentLink3Description: Package Specification; ComponentLink3URL: http:/www.analog.com/static/imported-files/packages/36244347913743854010197452789RU16.pdf
footprint ADI-RU-16_N (SOP, 16-Leads, Body 5x4.4mm, Pitch 0.65mm, IPC Medium Density)
footprint ADI-RU-16_L (SOP, 16-Leads, Body 5x4.4mm, Pitch 0.65mm, IPC High Density)
footprint ADI-RU-16_M (SOP, 16-Leads, Body 5x4.4mm, Pitch 0.65mm, IPC Low Density)
pins: 1 A0 (in) "Logic Control Input.", 2 EN (in) "Active High Digital Input. When low, the device is disabled and all switches are off. When high, Ax logic inputs determine on switches.", 3 VSS (power) "Most Negative Power Supply Potential. In single supply applications, it can be connected to ground.", 4 S1A "Source Terminal 1A. Can be an input or an output.", 5 S2A "Source Terminal 2A. Can be an input or an output.", 6 S3A "Source Terminal 3A. Can be an input or an output.", 7 S4A "Source Terminal 4A. Can be an input or an output.", 8 DA "Drain Terminal A. Can be an input or an output.", 9 DB "Drain Terminal B. Can be an input or an output.", 10 S4B "Source Terminal 4B. Can be an input or an output.", 11 S3B "Source Terminal 3B. Can be an input or an output.", 12 S2B "Source Terminal 2B. Can be an input or an output", 13 S1B "Source Terminal 1B. Can be an input or an output.", 14 VDD (power) "Most Positive Power Supply Potential.", 15 GND (power) "Ground (0 V) Reference.", 16 A1 (in) "Logic Control Input."

## ADG1409YCPZ-REEL7
designator U?
4 Ohm Ron, 4-Channel +/-15 V / +12 V / +/-5 V iCMOS Multiplexer, 16-pin QFN (CP-16-13), Reel; Manufacturer: Analog Devices; PartNumber: ADG1409YCPZ-REEL7; Bandwidth (Hz): 115M, 72 M, 80M; Max Analog Signal Range: Vss to Vdd; Ron (ohms): 4; t transition (s): 140n; DatasheetVersion: Rev. B; PackageVersion: 031006-A, 06/2006; PackageReference: CP-16-13; PackageDescription: 16-Pin Lead Frame Chip Scale Package, Body 4 x 4 mm, Pitch 0.65 mm; Supplier 1: Digi-Key; Supplier Part Number 1: ADG1409YCPZ-REEL7TR-ND; Supplier 2: Digi-Key; Supplier Part Number 2: ADG1409YCPZ-REEL7CT-ND; Supplier 3: Digi-Key; Supplier Part Number 3: ADG1409YCPZ-REEL7DKR-ND; Supplier 4: Farnell; Supplier Part Number 4: 2377066; Supplier 5: Farnell; Supplier Part Number 5: 2312934; Supplier 6: Newark; Supplier Part Number 6: 46M5169; Supplier 7: Newark; Supplier Part Number 7: 67W3115; Supplier 8: Mouser; Supplier Part Number 8: 584-ADG1409YCPZ-R7; Packing: Reel; Mounting Technology: Surface Mount; Code_JEDEC: MO-220-VGGC.; ComponentLink1Description: Manufacturer URL; ComponentLink1URL: http://www.analog.com/en/index.html; ComponentLink2Description: Datasheet; ComponentLink2URL: http://www.analog.com/static/imported-files/data_sheets/ADG1408_1409.pdf; ComponentLink3Description: Package Specification; ComponentLink3URL: http://www.analog.com/static/imported-files/packages/PKG_PDF/LFCSP(CP)/CP-16/CP_16_13.pdf
footprint ADI-CP-16-13_N (QFN, 16-Leads, Body 4x4mm, Pitch 0.65mm, Thermal Pad 2.5x2.5mm, IPC Medium Density)
footprint ADI-CP-16-13_L (QFN, 16-Leads, Body 4x4mm, Pitch 0.65mm, Thermal Pad 2.5x2.5mm, IPC High Density)
footprint ADI-CP-16-13_M (QFN, 16-Leads, Body 4x4mm, Pitch 0.65mm, Thermal Pad 2.5x2.5mm, IPC Low Density)
pins: 1 VSS (power) "Most Negative Power Supply Potential. In single supply applications, it can be connected to ground.", 2 S1A "Source Terminal 1A. Can be an input or an output.", 3 S2A "Source Terminal 2A. Can be an input or an output.", 4 S3A "Source Terminal 3A. Can be an input or an output.", 5 S4A "Source Terminal 4A. Can be an input or an output.", 6 DA "Drain Terminal A. Can be an input or an output.", 7 DB "Drain Terminal B. Can be an input or an output.", 8 S4B "Source Terminal 4B. Can be an input or an output.", 9 S3B "Source Terminal 3B. Can be an input or an output.", 10 S2B "Source Terminal 2B. Can be an input or an output.", 11 S1B "Source Terminal 1B. Can be an input or an output.", 12 VDD (power) "Most Positive Power Supply Potential.", 13 GND (power) "Ground (0 V) Reference.", 14 A1 (in) "Logic Control Input.", 15 A0 (in) "Logic Control Input.", 16 EN (in) "Active High Digital Input. When low, the device is disabled and all switches are off. When high, Ax logic inputs determine on switches.", 17 EP (power) "The exposed pad is connected internally. For increased reliability of the solder joints and maximum thermal capability, it is recommended that the pad be soldered to the substrate, VSS."

## ADG1409YRUZ
designator U?
4 Ohm Ron, 4-Channel +/-15 V / +12 V / +/-5 V iCMOS Multiplexer, 16-pin SOP (RU-16), Tube; Manufacturer: Analog Devices; PartNumber: ADG1409YRUZ; Bandwidth (Hz): 115M, 72 M, 80M; Max Analog Signal Range: Vss to Vdd; Ron (ohms): 4; t transition (s): 140n; DatasheetVersion: Rev. B; PackageVersion: Nov-02; PackageReference: RU-16; PackageDescription: 16-Pin Thin Shrink Small Outline Package, Body 5 x 4.4 mm, Pitch 0.65 mm; Supplier 1: Digi-Key; Supplier Part Number 1: ADG1409YRUZ-ND; Supplier 2: Farnell; Supplier Part Number 2: 1438941; Supplier 3: Newark; Supplier Part Number 3: 55M3850; Supplier 4: Mouser; Supplier Part Number 4: 584-ADG1409YRUZ; Packing: Tube; Mounting Technology: Surface Mount; Code_JEDEC: MO-153AB; ComponentLink1Description: Manufacturer URL; ComponentLink1URL: http://www.analog.com/en/index.html; ComponentLink2Description: Datasheet; ComponentLink2URL: http://www.analog.com/static/imported-files/data_sheets/ADG1408_1409.pdf; ComponentLink3Description: Package Specification; ComponentLink3URL: http:/www.analog.com/static/imported-files/packages/36244347913743854010197452789RU16.pdf
footprint ADI-RU-16_N (SOP, 16-Leads, Body 5x4.4mm, Pitch 0.65mm, IPC Medium Density)
footprint ADI-RU-16_L (SOP, 16-Leads, Body 5x4.4mm, Pitch 0.65mm, IPC High Density)
footprint ADI-RU-16_M (SOP, 16-Leads, Body 5x4.4mm, Pitch 0.65mm, IPC Low Density)
pins: 1 A0 (in) "Logic Control Input.", 2 EN (in) "Active High Digital Input. When low, the device is disabled and all switches are off. When high, Ax logic inputs determine on switches.", 3 VSS (power) "Most Negative Power Supply Potential. In single supply applications, it can be connected to ground.", 4 S1A "Source Terminal 1A. Can be an input or an output.", 5 S2A "Source Terminal 2A. Can be an input or an output.", 6 S3A "Source Terminal 3A. Can be an input or an output.", 7 S4A "Source Terminal 4A. Can be an input or an output.", 8 DA "Drain Terminal A. Can be an input or an output.", 9 DB "Drain Terminal B. Can be an input or an output.", 10 S4B "Source Terminal 4B. Can be an input or an output.", 11 S3B "Source Terminal 3B. Can be an input or an output.", 12 S2B "Source Terminal 2B. Can be an input or an output", 13 S1B "Source Terminal 1B. Can be an input or an output.", 14 VDD (power) "Most Positive Power Supply Potential.", 15 GND (power) "Ground (0 V) Reference.", 16 A1 (in) "Logic Control Input."

## ADG1409YRUZ-REEL
designator U?
4 Ohm Ron, 4-Channel +/-15 V / +12 V / +/-5 V iCMOS Multiplexer, 16-pin SOP (RU-16), Reel; Manufacturer: Analog Devices; PartNumber: ADG1409YRUZ-REEL; Bandwidth (Hz): 115M, 72 M, 80M; Max Analog Signal Range: Vss to Vdd; Ron (ohms): 4; t transition (s): 140n; DatasheetVersion: Rev. B; PackageVersion: Nov-02; PackageReference: RU-16; PackageDescription: 16-Pin Thin Shrink Small Outline Package, Body 5 x 4.4 mm, Pitch 0.65 mm; Supplier 1: Digi-Key; Supplier Part Number 1: ADG1409YRUZ-REEL-ND; Supplier 2: Newark; Supplier Part Number 2: 46M5170; Supplier 3: Mouser; Supplier Part Number 3: 584-ADG1409YRUZ-R; Packing: Reel; Mounting Technology: Surface Mount; Code_JEDEC: MO-153AB; ComponentLink1Description: Manufacturer URL; ComponentLink1URL: http://www.analog.com/en/index.html; ComponentLink2Description: Datasheet; ComponentLink2URL: http://www.analog.com/static/imported-files/data_sheets/ADG1408_1409.pdf; ComponentLink3Description: Package Specification; ComponentLink3URL: http:/www.analog.com/static/imported-files/packages/36244347913743854010197452789RU16.pdf
footprint ADI-RU-16_N (SOP, 16-Leads, Body 5x4.4mm, Pitch 0.65mm, IPC Medium Density)
footprint ADI-RU-16_L (SOP, 16-Leads, Body 5x4.4mm, Pitch 0.65mm, IPC High Density)
footprint ADI-RU-16_M (SOP, 16-Leads, Body 5x4.4mm, Pitch 0.65mm, IPC Low Density)
pins: 1 A0 (in) "Logic Control Input.", 2 EN (in) "Active High Digital Input. When low, the device is disabled and all switches are off. When high, Ax logic inputs determine on switches.", 3 VSS (power) "Most Negative Power Supply Potential. In single supply applications, it can be connected to ground.", 4 S1A "Source Terminal 1A. Can be an input or an output.", 5 S2A "Source Terminal 2A. Can be an input or an output.", 6 S3A "Source Terminal 3A. Can be an input or an output.", 7 S4A "Source Terminal 4A. Can be an input or an output.", 8 DA "Drain Terminal A. Can be an input or an output.", 9 DB "Drain Terminal B. Can be an input or an output.", 10 S4B "Source Terminal 4B. Can be an input or an output.", 11 S3B "Source Terminal 3B. Can be an input or an output.", 12 S2B "Source Terminal 2B. Can be an input or an output", 13 S1B "Source Terminal 1B. Can be an input or an output.", 14 VDD (power) "Most Positive Power Supply Potential.", 15 GND (power) "Ground (0 V) Reference.", 16 A1 (in) "Logic Control Input."